# Altium footprint library Mainboard1.PcbLib: 17 footprints (part 2 of 2)
Each footprint in its own frame and in the unit in brackets; x right, y up, seen from the top. Pads: shape width x height; smd on the part's side, far side on the other; paste and mask are expansions set on the pad; w line width, h text height; cw(c..) or ccw(c..) is an arc to the next point about the centre after c.
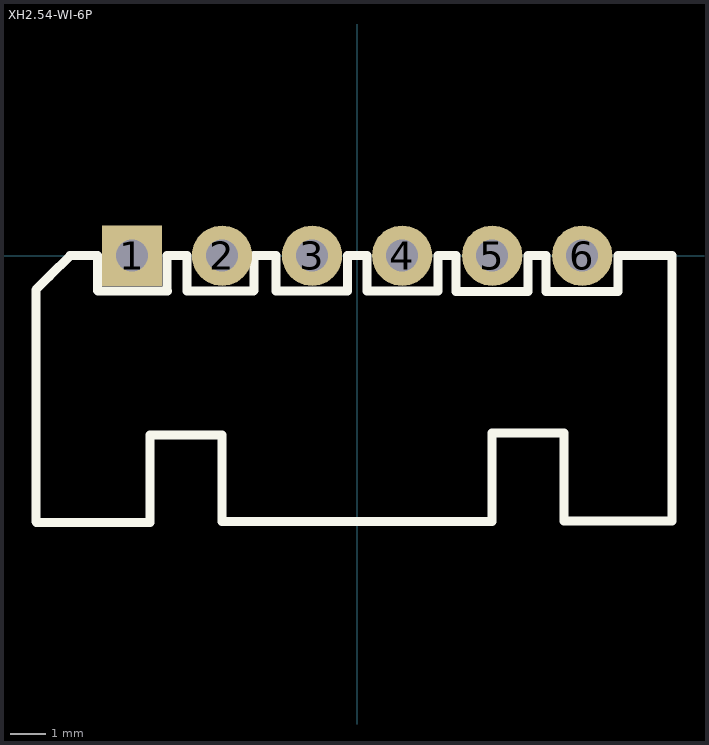
[diagram p1: the footprint, top view; thin cyan lines are the x and y axes]

## XH2.54-WI-6P [mm] "接插件，6P"
pads (6):
  rect 1.7x1.7 hole 0.9: 1(-6.35,0)
  round 1.7 hole 0.9: 2(-3.81,0) 3(-1.27,0) 4(1.27,0) 5(3.81,0) 6(6.35,0)
Top Overlay:
  lines w0.254: -2.916,0 -2.916,-0.988 -2.93,-1.002 -4.796,-1.002 -4.796,0 -5.368,0 -5.368,-0.982 -5.354,-0.996 -7.31,-0.996 -7.324,-0.982 -7.324,0 -8.1,0 -8.682,-0.582 -9.066,-0.966 -9.066,-7.502 -9.04,-7.528 -5.842,-7.528 -5.842,-5.058 -3.81,-5.058 -3.81,-7.502 3.81,-7.502 3.81,-5.006 5.842,-5.006 5.842,-7.49 8.89,-7.49 8.89,0 7.366,0 7.366,-1.016 5.334,-1.016 5.334,0 4.826,0 4.826,-1.016 2.794,-1.016 2.794,0 2.286,0 2.286,-1.002 0.282,-1.002 0.282,0 ; -2.904,0 -2.306,0 ; -2.292,-0.996 -2.292,0 ; -2.272,-0.996 -0.284,-0.996 -0.278,-0.99 -0.278,0 0.268,0
3D body "XH2.54-6P_H.STEP": height 5.75, standoff -3.35, extent -8.85,-7.35 8.85,0.35